# EAGLE library part XMOS_AVB_BRD_V4_AR8035_AR8035-AL1A-R (library xmos_avb_brd_V4)
AR8035 Integrated 10/100/1000 Gigabit Ethernet Transceiver
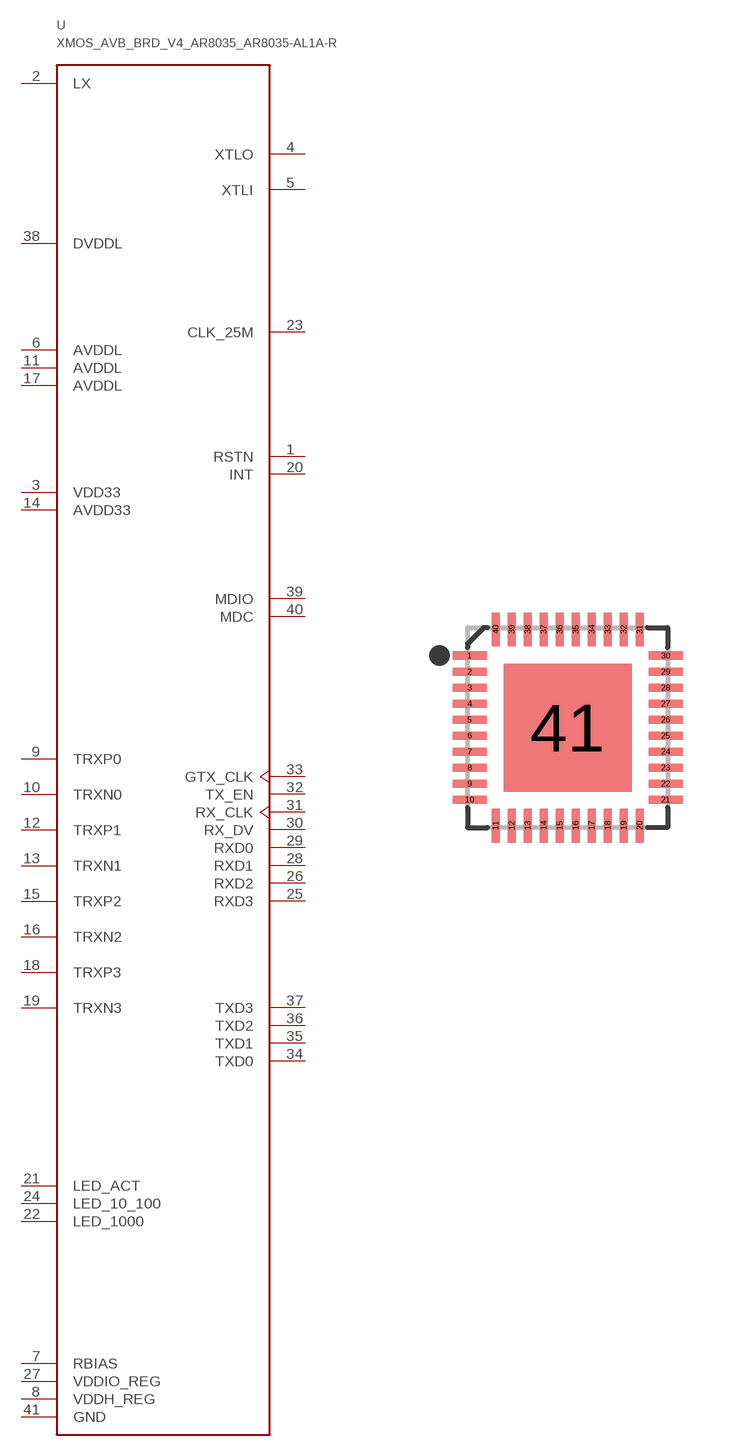
[diagram p4: symbol with the pads of XMOS_AVB_BRD_V4_AR8035_QFN40P500X500X75-41N; footprint XMOS_AVB_BRD_V4_AR8035_QFN40P500X500X75-41N]

Designator prefix U

## XMOS_AVB_BRD_V4_AR8035_AR8035-AL1A-R (MF: Qualcomm; MP: AR8035-AL1A-R; PACKAGE: QFN-40 Qualcomm; PRICE: None)  [XMOS_AVB_BRD_V4_AR8035_QFN40P500X500X75-41N]
1  RSTN  in
2  LX  out
3  VDD33  pwr
4  XTLO  out
5  XTLI  in
6  AVDDL  pwr
7  RBIAS  out
8  VDDH_REG  out
9  TRXP0  in
10  TRXN0  out
11  AVDDL  pwr
12  TRXP1  in
13  TRXN1  out
14  AVDD33  pwr
15  TRXP2  in
16  TRXN2  out
17  AVDDL  pwr
18  TRXP3  in
19  TRXN3  out
20  INT
21  LED_ACT
22  LED_1000
23  CLK_25M  out
24  LED_10_100
25  RXD3
26  RXD2
27  VDDIO_REG  out
28  RXD1
29  RXD0
30  RX_DV
31  RX_CLK
32  TX_EN  in
33  GTX_CLK  in
34  TXD0  in
35  TXD1  in
36  TXD2  in
37  TXD3  in
38  DVDDL  pwr
39  MDIO
40  MDC  in
41  GND  pwr

## Footprint XMOS_AVB_BRD_V4_AR8035_QFN40P500X500X75-41N (pad centres in mm)
smd 0.85 x 0.2: 1 -2.45,1.8; 2 -2.45,1.4; 3 -2.45,1; 4 -2.45,0.6; 5 -2.45,0.2; 6 -2.45,-0.2; 7 -2.45,-0.6; 8 -2.45,-1; 9 -2.45,-1.4; 10 -2.45,-1.8; 21 2.45,-1.8; 22 2.45,-1.4; 23 2.45,-1; 24 2.45,-0.6; 25 2.45,-0.2; 26 2.45,0.2; 27 2.45,0.6; 28 2.45,1; 29 2.45,1.4; 30 2.45,1.8
smd 0.2 x 0.85: 11 -1.8,-2.45; 12 -1.4,-2.45; 13 -1,-2.45; 14 -0.6,-2.45; 15 -0.2,-2.45; 16 0.2,-2.45; 17 0.6,-2.45; 18 1,-2.45; 19 1.4,-2.45; 20 1.8,-2.45; 31 1.8,2.45; 32 1.4,2.45; 33 1,2.45; 34 0.6,2.45; 35 0.2,2.45; 36 -0.2,2.45; 37 -0.6,2.45; 38 -1,2.45; 39 -1.4,2.45; 40 -1.8,2.45
smd 3.2 x 3.2: 41 0,0